# Altium footprint library WCAP-AWG5.PcbLib: 1 footprints
Each footprint in its own frame and in the unit in brackets; x right, y up, seen from the top. Pads: shape width x height; smd on the part's side, far side on the other; paste and mask are expansions set on the pad; w line width, h text height; cw(c..) or ccw(c..) is an arc to the next point about the centre after c.
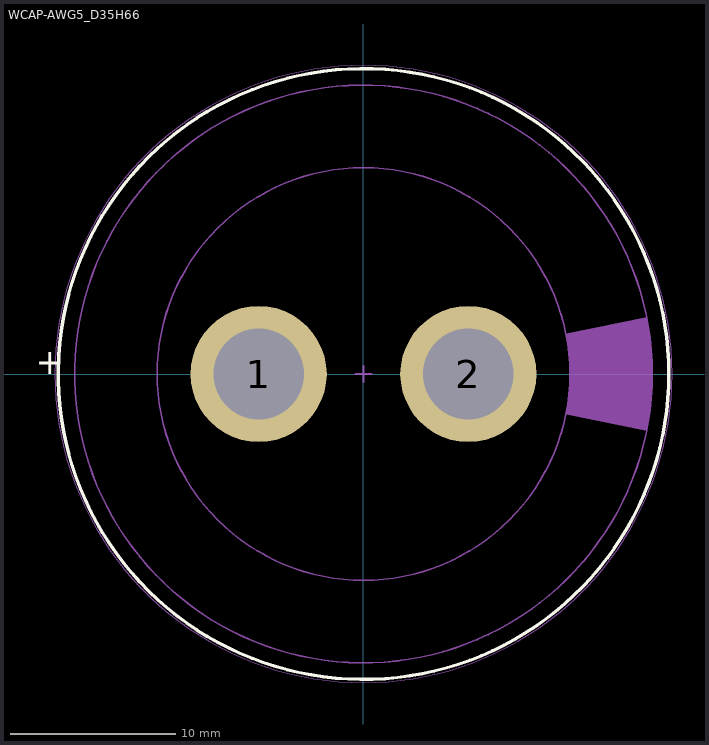
[diagram p0: the footprint, top view; thin cyan lines are the x and y axes]

## WCAP-AWG5_D35H66 [mm] "Screw Capacitor"
height 66
pads (2):
  round 8.25 hole 5.5: 1(-6.35,0) 2(6.35,0)
Top Overlay:
  circle w0.2: c0,0 r18.5
  text "+" at -19.85,0 h1.5
Top Assembly:
  circle w0.1: c0,0 r17.5
  circle w0.1: c0,0 r12.5
  region: 12.257,-2.451 17.159,-3.44 17.16,-3.432 17.245,-3.008 17.372,-2.153 17.458,-1.292 17.5,-0.428 17.5,0.436 17.457,1.3 17.371,2.161 17.244,3.016 17.159,3.44 12.257,2.451 12.314,2.148 12.405,1.538 12.466,0.924 12.496,0.308 12.496,-0.308 12.466,-0.924 12.405,-1.538 12.314,-2.148
Top Designator:
  text ".Designator" at -3.647,-0.357 h1
Top 3D Body:
  circle w0.1: c0,0 r12.5
  circle w0.1: c0,0 r17.5
  region: 12.257,-2.451 17.159,-3.44 17.16,-3.432 17.245,-3.008 17.372,-2.153 17.458,-1.292 17.5,-0.428 17.5,0.436 17.457,1.3 17.371,2.161 17.244,3.016 17.159,3.44 12.257,2.451 12.314,2.148 12.405,1.538 12.466,0.924 12.496,0.308 12.496,-0.308 12.466,-0.924 12.405,-1.538 12.314,-2.148
Top Courtyard:
  circle w0.05: c0,0 r18.7
Top Component Center:
  lines w0.1: -0.5,0 0.5,0 ; 0,-0.5 0,0.5
3D body "Download_STP_WCAP-AWG5 (rev1).stp": height 5.26, standoff -85.2, extent -17.479,-17.5 17.48,17.5